# EAGLE library part ADS1015 (library bschulz_Old)
ADS1015 - Sigma Delta ADC Characteristics: VCC: 2.0~5.5V Operating Temperature: -40°C to 125°C Number of Inputs: 4 (2 Differenital) Sample Rate: 3.3 kSPS Digikey: 296-41185-1-ND <https://www.digikey.com/scripts/DkSearch/dksus.dll?Detail&itemSeq=239425576&uq=636420163869990140>
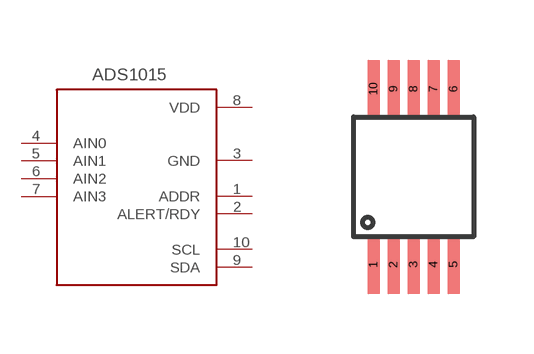
[diagram p23: symbol with the pads of VSSOP_10; footprint VSSOP_10]

Designator prefix -

## ADS1015  [VSSOP_10]
1  ADDR
2  ALERT/RDY
3  GND
4  AIN0
5  AIN1
6  AIN2
7  AIN3
8  VDD
9  SDA
10  SCL

## Footprint VSSOP_10 (pad centres in mm)
smd 0.3 x 1.45: 1 -1,-2.2; 2 -0.5,-2.2; 3 0,-2.2; 4 0.5,-2.2; 5 1,-2.2; 6 1,2.2; 7 0.5,2.2; 8 0,2.2; 9 -0.5,2.2; 10 -1,2.2